# Altium footprint library SHUNXIANGNUO_SMMS0650-150M.PcbLib: 1 footprints
Each footprint in its own frame and in the unit in brackets; x right, y up, seen from the top. Pads: shape width x height; smd on the part's side, far side on the other; paste and mask are expansions set on the pad; w line width, h text height; cw(c..) or ccw(c..) is an arc to the next point about the centre after c.
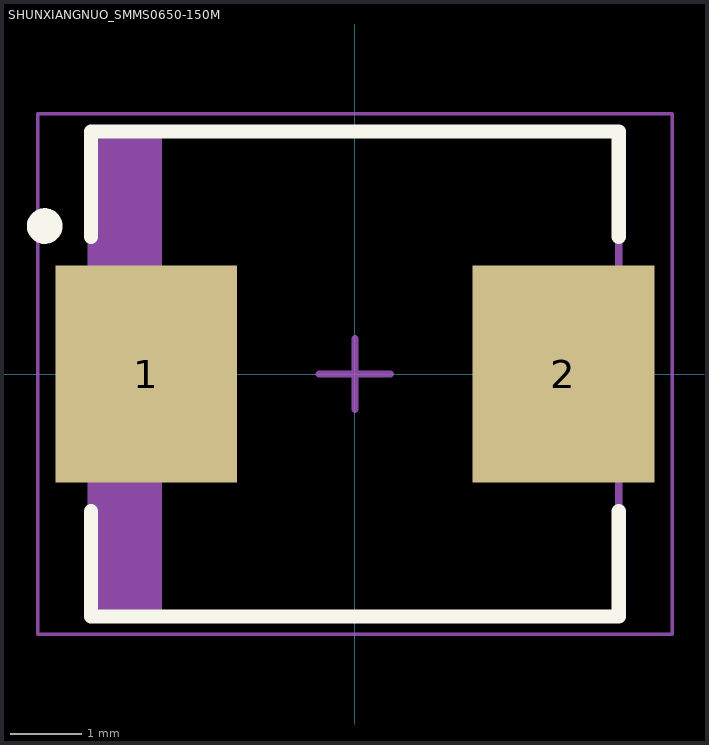
[diagram p0: the footprint, top view; thin cyan lines are the x and y axes]

## SHUNXIANGNUO_SMMS0650-150M [mm]
height 5
pads (2):
  rect 2.55x3.05 smd: 1(-2.925,0) 2(2.925,0)
Top Overlay:
  circle w0.25: c-4.35,2.075 r0.125
  lines w0.2: -3.7,-1.925 -3.7,-3.4 3.7,-3.4 3.7,-1.925 ; -3.7,1.925 -3.7,3.4 3.7,3.4 3.7,1.925
Mechanical 13:
  rectangle: -3.7,-3.4 -2.705,3.4
  lines w0.1: -3.7,-3.4 3.7,-3.4 3.7,3.4 -3.7,3.4 -3.7,-3.4
Mechanical 15:
  lines w0.05: -4.45,-3.65 4.45,-3.65 4.45,3.65 -4.45,3.65 -4.45,-3.65
  lines w0.1: -0.5,0 0.5,0 ; 0,-0.5 0,0.5
3D body: height 5, standoff 0, extent -3.7,-3.4 3.7,3.4